# Altium footprint library TPD4E004.PcbLib: 1 footprints
Each footprint in its own frame and in the unit in brackets; x right, y up, seen from the top. Pads: shape width x height; smd on the part's side, far side on the other; paste and mask are expansions set on the pad; w line width, h text height; cw(c..) or ccw(c..) is an arc to the next point about the centre after c.
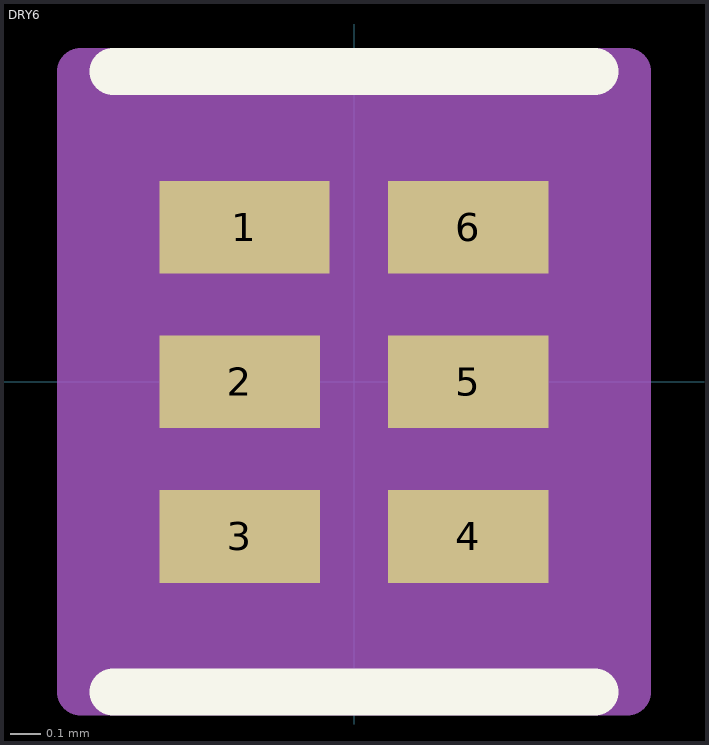
[diagram p0: the footprint, top view; thin cyan lines are the x and y axes]

## DRY6 [mm]
pads (6):
  rect 0.55x0.3 smd paste-0.15: 1(-0.355,0.5)
  rect 0.52x0.3 smd paste-0.15: 2(-0.37,0) 3(-0.37,-0.5) 4(0.37,-0.5) 5(0.37,0) 6(0.37,0.5)
Top Overlay:
  lines w0.152: -0.779,-1.004 0.779,-1.004 ; -0.779,1.004 0.779,1.004
Top Paste:
  region: 0.605,0.625 0.135,0.625 0.135,0.375 0.605,0.375
  region: 0.605,0.125 0.135,0.125 0.135,-0.125 0.605,-0.125
  region: 0.605,-0.375 0.135,-0.375 0.135,-0.625 0.605,-0.625
  region: -0.135,-0.375 -0.605,-0.375 -0.605,-0.625 -0.135,-0.625
  region: -0.135,0.125 -0.605,0.125 -0.605,-0.125 -0.135,-0.125
  region: -0.105,0.625 -0.605,0.625 -0.605,0.375 -0.105,0.375
Top Solder:
  region: 0.7,0.72 0.04,0.72 0.04,0.28 0.7,0.28
  region: 0.7,0.22 0.04,0.22 0.04,-0.22 0.7,-0.22
  region: 0.7,-0.28 0.04,-0.28 0.04,-0.72 0.7,-0.72
  region: -0.04,-0.28 -0.7,-0.28 -0.7,-0.72 -0.04,-0.72
  region: -0.04,0.22 -0.7,0.22 -0.7,-0.22 -0.04,-0.22
  region: -0.04,0.72 -0.7,0.72 -0.7,0.28 -0.04,0.28
Mechanical 13:
  lines w0: -0.305,0.75 ccw(c0,0.75) 0.305,0.75
Mechanical 15:
  region: 0.884,-1.004 -0.884,-1.004 -0.884,1.004 0.884,1.004
  lines w0.152: -0.884,-1.004 0.884,-1.004 0.884,1.004 -0.884,1.004 -0.884,-1.004